# Altium schematic symbol library OWMR.SchLib: 11 symbols
Pins are listed as number, name and electrical type; pins without a type are passive.

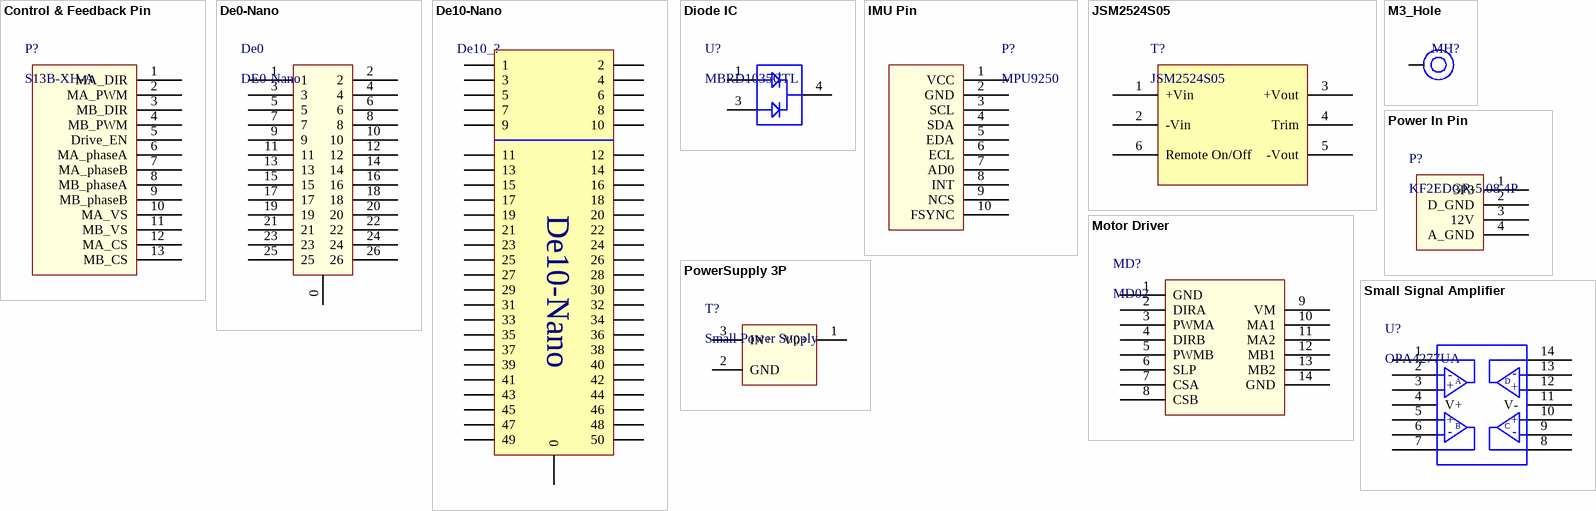
[diagram p0: symbols Control & Feedback Pin to Small Signal Amplifier]

## Control & Feedback Pin
designator P?, comment S13B-XH-A
Control & Feedback Pin
footprint S13B-XH-A (XH Header-side 13P)
pins: 1 MA_DIR, 2 MA_PWM, 3 MB_DIR, 4 MB_PWM, 5 Drive_EN, 6 MA_phaseA, 7 MA_phaseB, 8 MB_phaseA, 9 MB_phaseB, 10 MA_VS, 11 MB_VS, 12 MA_CS, 13 MB_CS

## De0-Nano
designator De0, comment DE0-Nano
footprint DE0-Nano
pins: 0 "Screw Hole", 1, 2, 3, 4, 5, 6, 7, 8, 9, 10, 11, 12, 13, 14, 15, 16, 17, 18, 19, 20, 21, 22, 23, 24, 25, 26

## De10-Nano
designator De10_?
De10-Nano
footprint De10-Nano
pins: 0, 1, 2, 3, 4, 5, 6, 7, 8, 9, 10, 11, 12, 13, 14, 15, 16, 17, 18, 19, 20, 21, 22, 23, 24, 25, 26, 27, 28, 29, 30, 31, 32, 33, 34, 35, 36, 37, 38, 39, 40, 41, 42, 43, 44, 45, 46, 47, 48, 49, 50

## Diode IC
designator U?, comment MBRD1035CTL
35V 10A 2 Cheel Diode; buy_link: https://www.ruten.com.tw/item/show?21744290003226; datasheet: https://datasheet.ciiva.com/905/mbrd1035ctl-d-905952.pdf?src-supplier=Digi-Key
footprint MBRD1035CTL (D-PAK, 3-Pads, Body 6.21x6.73mm (max), IPC Medium Density)
pins: 1, 3, 4

## IMU Pin
designator P?, comment MPU9250
3 axis Gyro, Acceleration, Magmetic
footprint MPU9250
pins: 1 VCC, 2 GND, 3 SCL, 4 SDA, 5 EDA, 6 ECL, 7 AD0, 8 INT, 9 NCS, 10 FSYNC

## JSM2524S05
designator T?
JSM2524S05 Isolation DC-DC converter
footprint JSM2524S05
pins: 1 +Vin, 2 -Vin, 3 +Vout, 4 Trim, 5 -Vout, 6 Remote On/Off

## M3_Hole
designator MH?, comment M3 Hole  (value not drawn)
footprint M3 Hole
pins: 1

## Motor Driver
designator MD?, comment MD02
17A 2 Cheel Motor Driver; buy_link: https://www.ruten.com.tw/item/show?21811773783671
footprint MOTOR_DRIVER (17A 雙路 大功率馬達驅動模組)
pins: 1 GND, 2 DIRA, 3 PWMA, 4 DIRB, 5 PWMB, 6 SLP, 7 CSA, 8 CSB, 9 VM, 10 MA1, 11 MA2, 12 MB1, 13 MB2, 14 GND

## Power In Pin
designator P?, comment KF2EDGR-5.08 4P
Power In Pin
footprint KF2EDGR-5.08 4P
pins: 1 3P3, 2 D_GND, 3 12V, 4 A_GND

## PowerSupply 3P
designator T?, comment Small Power Supply
BuyLink: https://www.ruten.com.tw/item/show?21817939184609
footprint Samll Power Supply (5v to 3P3 Power Supply)
pins: 1 V0+, 2 GND, 3 IN+

## Small Signal Amplifier
designator U?, comment OPA4277UA
Small Signal Amplifier; buy_link: https://www.ruten.com.tw/item/show?22015419000992; datasheet: https://datasheet.ciiva.com/27050/905643-27050822.pdf?src-supplier=Jameco
footprint OPA4277UA (SOIC, 14-Leads, Body 8.65x3.90mm, Pitch 1.27mm, IPC Medium Density)
pins: 1 Out A, 2 -In A, 3 +In A, 4 V+, 5 +In B, 6 -In B, 7 Out B, 8 Out C, 9 -In C, 10 +in C, 11 V-, 12 +In D, 13 -In D, 14 Out D
text: －; A; D; +; B; C